# Altium footprint library TRANS_EE10.PcbLib: 1 footprints
Each footprint in its own frame and in the unit in brackets; x right, y up, seen from the top. Pads: shape width x height; smd on the part's side, far side on the other; paste and mask are expansions set on the pad; w line width, h text height; cw(c..) or ccw(c..) is an arc to the next point about the centre after c.
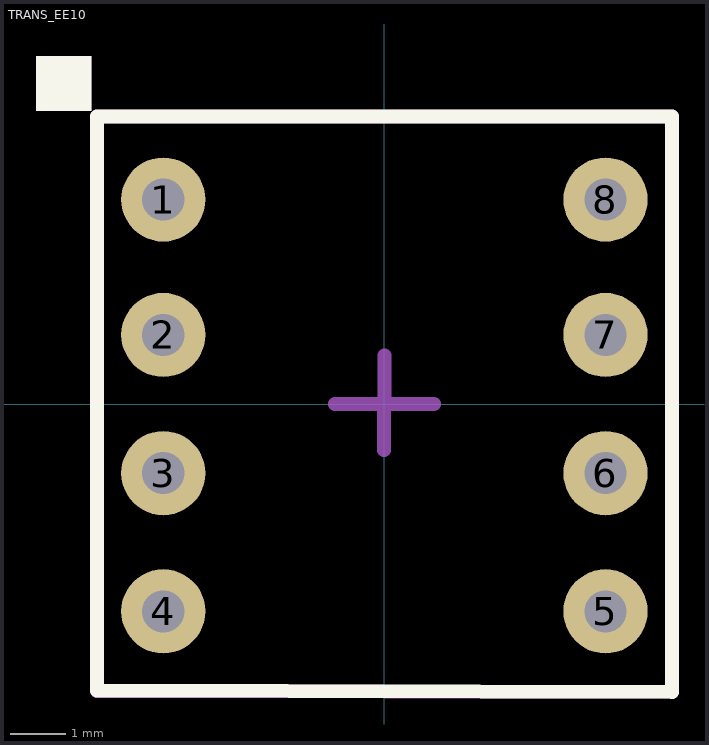
[diagram p0: the footprint, top view; thin cyan lines are the x and y axes]

## TRANS_EE10 [mil]
pads (8):
  round 60 hole 30: 1(-157.48,145.67) 2(-157.48,49.21) 3(-157.48,-49.21) 4(-157.48,-147.64) 5(157.48,-147.64) 6(157.48,-49.21) 7(157.48,49.21) 8(157.48,145.67)
Top Overlay:
  rectangle: -248.03,208.66 -208.66,248.03
  lines w10: -204.72,-204.15 -204.72,204.72 204.72,204.72 204.72,-205.05 -204.72,-204.15
Top Assembly:
  rectangle: -248.03,208.66 -208.66,248.03
  lines w10: -204.72,-204.32 -204.72,204.72 204.72,204.72 204.72,-205.23 -204.72,-204.32
  text "'.Designator'" at -33.46,-14.76 h27.56
Top TopCourtyard/BotCourtyard (Mech15):
  lines w10: -35.16,0 0,0 ; -0.42,-32.57 -0.42,2.16 ; 0,34.73 0,0 ; 35.16,0 0,0
3D body "User Library-TRAFO-EE10(4+4)Pin-Vertical.STEP": height 472.44, standoff -59.06, extent -196.85,-196.85 196.85,196.85